# Altium schematic symbol library ACPL-T350.SchLib: 1 symbol
Pins are listed as number, name and electrical type; pins without a type are passive.

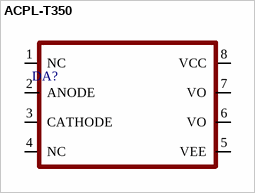
[diagram p0: symbol ACPL-T350]

## ACPL-T350
designator DA?
footprint ACPL-T350
pins: 1 NC, 2 ANODE, 3 CATHODE, 4 NC, 5 VEE, 6 VO, 7 VO, 8 VCC